# Altium footprint library SAMTEC_USB-AM-S-X-X-SM1.PcbLib: 1 footprints
Each footprint in its own frame and in the unit in brackets; x right, y up, seen from the top. Pads: shape width x height; smd on the part's side, far side on the other; paste and mask are expansions set on the pad; w line width, h text height; cw(c..) or ccw(c..) is an arc to the next point about the centre after c.
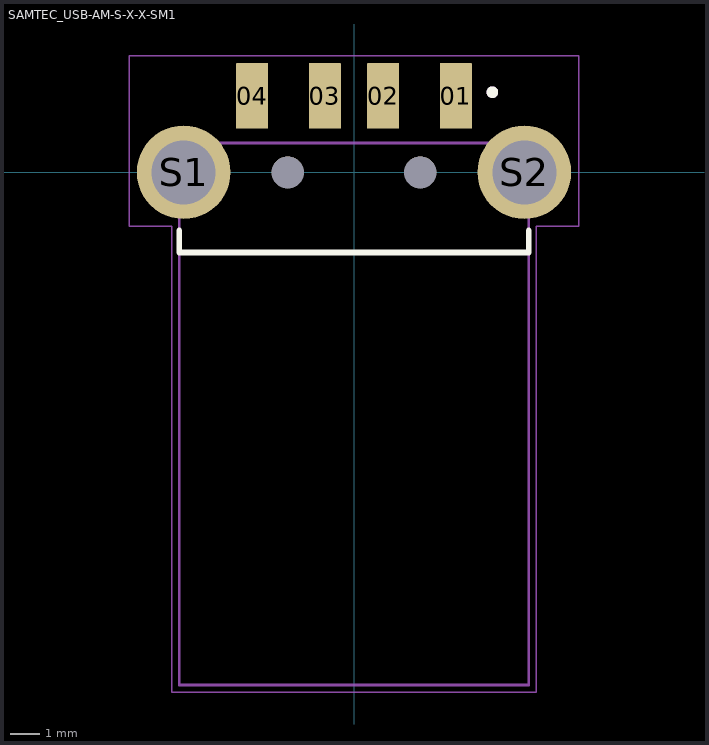
[diagram p0: the footprint, top view; thin cyan lines are the x and y axes]

## SAMTEC_USB-AM-S-X-X-SM1 [mm]
pads (8):
  rrect4% 1.1x2.25 smd: 01(3.5,2.625) 02(1,2.625) 03(-1,2.625) 04(-3.5,2.625)
  round 3.216 hole 2.2: S1(-5.85,0) S2(5.85,0)
  round 1.1 hole 1.1 unplated: ""(-2.275,0) ""(2.275,0)
Top Overlay:
  circle w0.2: c4.75,2.75 r0.1
  lines w0.2: -6,-2 -6,-2.75 6,-2.75 6,-2
Mechanical 13:
  circle w0.2: c4.75,2.75 r0.1
  lines w0.1: -6,-2.75 6,-2.75 ; -6,-17.6 -6,1 6,1 6,-17.6 -6,-17.6
  text "PCB EDGE" at -3.5,-2.5 h1.02
Mechanical 15:
  lines w0.05: -7.71,-1.86 -7.71,4 7.71,4 7.71,-1.86 6.25,-1.86 6.25,-17.85 -6.25,-17.85 -6.25,-1.86 -7.71,-1.86
3D body "USB-AM-S-S-B-SM1.stp": height 3.1, standoff -2.79, extent -6.473,-17.941 6.223,3.209